# EAGLE library part ACS723 (library SparkFun-Sensors)
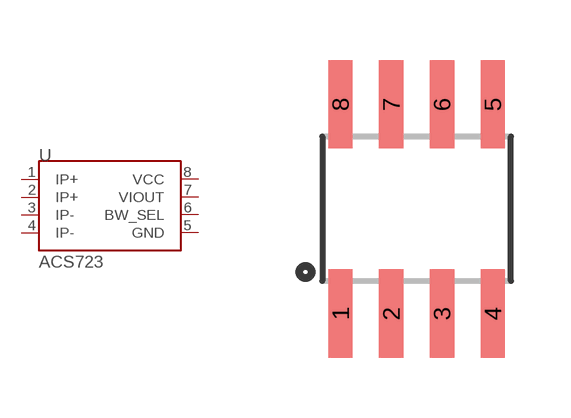
[diagram p43: symbol with the pads of SO08; footprint SO08]

Designator prefix -

## ACS723 (PART_#: ACS723ACS723LLCTR-05AB-T2; PROD_ID: IC-13872)  [SO08]
1  IP+  in
2  IP+  in
3  IP-
4  IP-
5  GND
6  BW_SEL
7  VIOUT
8  VCC

## Footprint SO08 (pad centres in mm)
Small Outline Package Fits JEDEC packages (narrow SOIC-8)
smd 0.61 x 2.21: 1 -1.905,-2.616; 2 -0.635,-2.616; 3 0.635,-2.616; 4 1.905,-2.616; 5 1.905,2.616; 6 0.635,2.616; 7 -0.635,2.616; 8 -1.905,2.616